# EAGLE library part 25_SPI_FLASH (library sapphire)
Atmel AT25 series SPI dataflash / Microchip SST25 series SPI flash
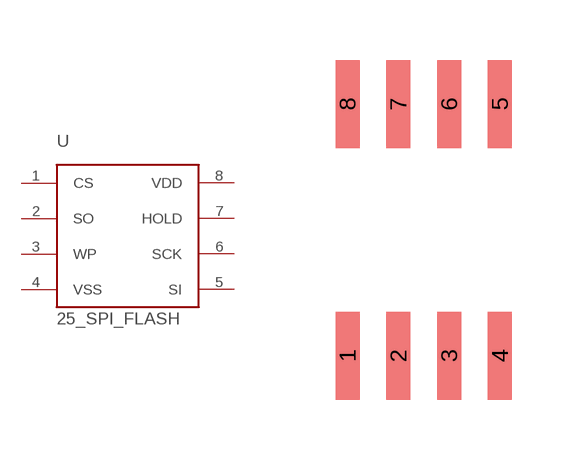
[diagram p0: symbol with the pads of SO-8WIDE; footprint SO-8WIDE]

Designator prefix -

## 25_SPI_FLASH  [SO-8WIDE]
1  CS
2  SO
3  WP
4  VSS
5  SI
6  SCK
7  HOLD
8  VDD

## Footprint SO-8WIDE (pad centres in mm)
smd 0.6 x 2.2: 1 -1.905,-2.6; 2 -0.635,-2.6; 3 0.635,-2.6; 4 1.905,-2.6; 5 1.905,3.7; 6 0.635,3.7; 7 -0.635,3.7; 8 -1.905,3.7